# EAGLE library part AUBTM-20 (library Mix)
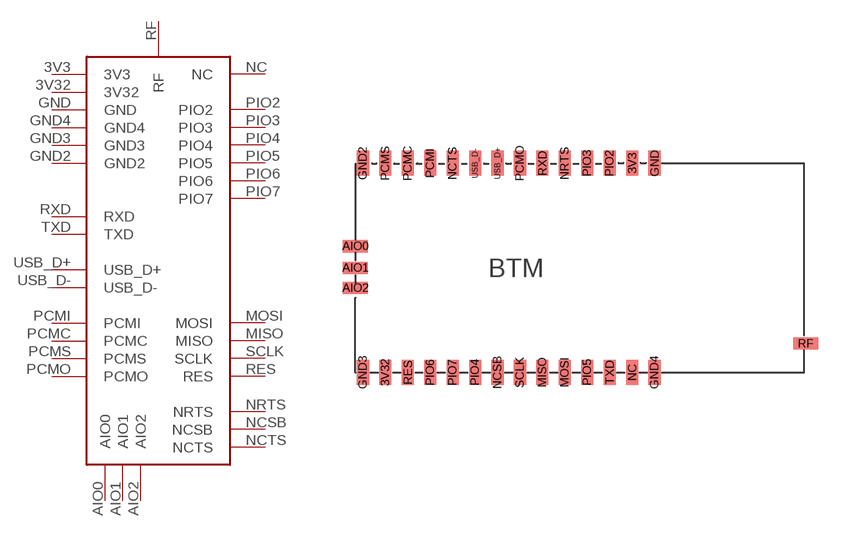
[diagram p0: symbol with the pads of BT-MODULE; footprint BT-MODULE]

Designator prefix -

## AUBTM-20  [BT-MODULE]
3V3  3V3
3V32  3V32
AIO0  AIO0
AIO1  AIO1
AIO2  AIO2
GND  GND
GND2  GND2
GND3  GND3
GND4  GND4
MISO  MISO
MOSI  MOSI
NC  NC
NCSB  NCSB
NCTS  NCTS
NRTS  NRTS
PCMC  PCMC
PCMI  PCMI
PCMO  PCMO
PCMS  PCMS
PIO2  PIO2
PIO3  PIO3
PIO4  PIO4
PIO5  PIO5
PIO6  PIO6
PIO7  PIO7
RES  RES
RF  RF
RXD  RXD
SCLK  SCLK
TXD  TXD
USB_D+  USB_D+
USB_D-  USB_D-

## Footprint BT-MODULE (pad centres in mm)
AUBTM-20 Bluetooth Module
smd 0.813 x 1.676: 3V3 18.5,14; 3V32 2,0; GND 20,14; GND2 0.5,14; GND3 0.5,0; GND4 20,0; MISO 12.5,0; MOSI 14,0; NC 18.5,0; NCSB 9.5,0; NCTS 6.5,14; NRTS 14,14; PCMC 3.5,14; PCMI 5,14; PCMO 11,14; PCMS 2,14; PIO2 17,14; PIO3 15.5,14; PIO4 8,0; PIO5 15.5,0; PIO6 5,0; PIO7 6.5,0; RES 3.5,0; RXD 12.5,14; SCLK 11,0; TXD 17,0; USB_D+ 9.5,14; USB_D- 8,14
smd 1.676 x 0.813: AIO0 0,8.45; AIO1 0,7; AIO2 0,5.65; RF 30.1,1.95